# Altium footprint library Transistor.PcbLib: 59 footprints (part 1 of 4)
Each footprint in its own frame and in the unit in brackets; x right, y up, seen from the top. Pads: shape width x height; smd on the part's side, far side on the other; paste and mask are expansions set on the pad; w line width, h text height; cw(c..) or ccw(c..) is an arc to the next point about the centre after c.
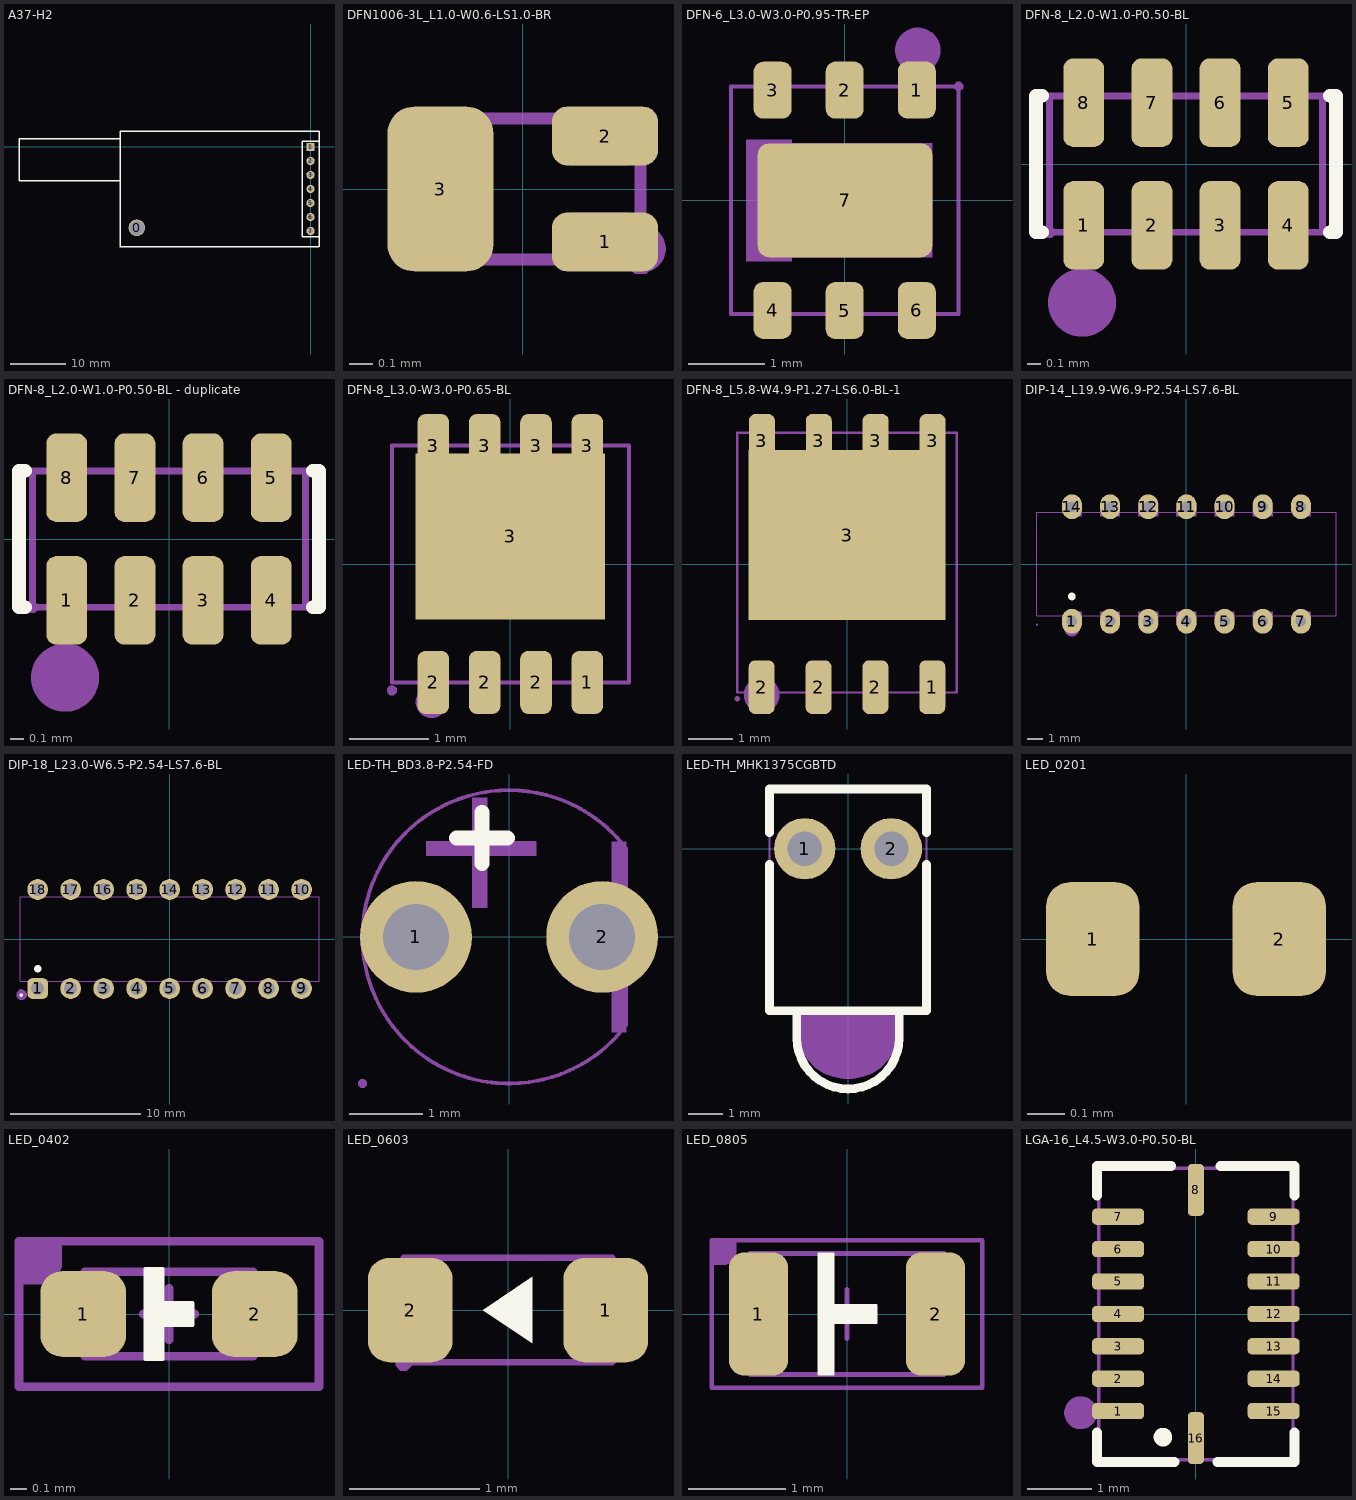
[diagram p0: the footprints below, top view; thin cyan lines are the x and y axes]

## A37-H2 [mm]
pads (8):
  round 3 hole 2.7: 0(-31.468,-14.66)
  rect 1.5x1.5 hole 0.9: 1(0,0)
  round 1.5 hole 0.9: 2(0,-2.54) 3(0,-5.08) 4(0,-7.62) 5(0,-10.16) 6(0,-12.7) 7(0.016,-15.24)
Top Overlay:
  lines w0.24: -34.476,-6.096 -52.832,-6.096 -52.832,1.524 -34.476,1.524
  lines w0.254: -34.534,-18.12 1.466,-18.12 ; -34.46,-18.12 -34.46,2.88 1.54,2.88 1.54,-18.12 ; 1.524,-16.256 -1.524,-16.256 -1.524,1.016 1.524,1.016

## DFN1006-3L_L1.0-W0.6-LS1.0-BR [mm]
pads (3):
  rrect50% 0.45x0.25 smd: 1(0.35,-0.225) 2(0.35,0.225)
  rrect50% 0.45x0.7 smd: 3(-0.35,0)
Mechanical 6:
  circle w0.1: c0.508,-0.254 r0.05
Mechanical 15:
  region: 0.56,-0.3 0.56,-0.275 0.525,-0.24 0.475,-0.24 0.44,-0.275 0.44,-0.3 0.44,-0.325 0.475,-0.36 0.525,-0.36 0.56,-0.325 0.56,-0.3
  region: -0.201,-0.25 -0.451,-0.25 -0.451,0.25 -0.201,0.25
  region: 0.2,0.25 0.45,0.25 0.45,0.1 0.2,0.1
  region: 0.2,-0.1 0.45,-0.1 0.45,-0.25 0.2,-0.25
  lines w0.051: -0.5,-0.3 -0.5,0.3 0.5,0.3 0.5,-0.3 -0.5,-0.3
3D body "User Library-DFN1006-3-1.STEP": height 0.4, standoff 0, extent -0.525,-0.325 0.525,0.325

## DFN-6_L3.0-W3.0-P0.95-TR-EP [mm]
pads (7):
  rrect50% 0.5x0.75 smd paste+0 mask+0.051: 1(0.95,1.452) 2(0,1.451) 3(-0.95,1.45) 4(-0.95,-1.451) 5(0,-1.452) 6(0.95,-1.451)
  rrect20% 2.3x1.5 smd paste+0 mask+0.051: 7(0.004,-0.001)
Mechanical 6:
  circle w0.3: c0.963,1.974 r0.15
  region: -1.3,0.8 -0.7,0.8 -0.7,-0.8 -1.3,-0.8
Mechanical 15:
  region: 1.56,1.5 1.56,1.525 1.525,1.56 1.475,1.56 1.44,1.525 1.44,1.5 1.44,1.475 1.475,1.44 1.525,1.44 1.56,1.475 1.56,1.5
  region: -1.146,-0.751 -1.146,0.75 1.154,0.75 1.154,-0.751
  region: 0.2,-1.5 -0.2,-1.5 -0.2,-1.1 0.2,-1.1
  region: -0.75,-1.5 -1.15,-1.5 -1.15,-1.1 -0.75,-1.1
  region: 1.15,-1.5 0.75,-1.5 0.75,-1.1 1.15,-1.1
  region: -1.142,1.499 -0.742,1.499 -0.742,1.099 -1.142,1.099
  region: 0.758,1.499 1.158,1.499 1.158,1.099 0.758,1.099
  region: -0.192,1.499 0.208,1.499 0.208,1.099 -0.192,1.099
  lines w0.051: -1.5,-1.5 1.5,-1.5 1.5,1.5 -1.5,1.5 -1.5,-1.5
3D body "DFN-6 3x3.step": height 1, standoff 0, extent -1.5,-1.525 1.5,1.525

## DFN-8_L2.0-W1.0-P0.50-BL [mm]
pads (8):
  rrect50% 0.3x0.65 smd paste+0 mask+0.05: 1(-0.75,-0.45) 2(-0.25,-0.45) 3(0.25,-0.45) 4(0.75,-0.45) 5(0.75,0.45) 6(0.25,0.45) 7(-0.25,0.45) 8(-0.75,0.45)
Top Overlay:
  lines w0.1: -1.054,-0.5 -1.1,-0.5 -1.1,0.5 -1.054,0.5 ; 1.054,-0.5 1.1,-0.5 1.1,0.5 1.054,0.5
Mechanical 6:
  circle w0.25: c-0.762,-1.016 r0.125
Mechanical 15:
  region: -0.96,-0.5 -0.96,-0.484 -0.983,-0.46 -1.017,-0.46 -1.04,-0.484 -1.04,-0.5 -1.04,-0.517 -1.017,-0.54 -0.983,-0.54 -0.96,-0.517 -0.96,-0.5
  region: -0.865,-0.5 -0.865,-0.15 -0.635,-0.15 -0.635,-0.5
  region: -0.365,-0.5 -0.365,-0.15 -0.135,-0.15 -0.135,-0.5
  region: 0.135,-0.5 0.135,-0.15 0.365,-0.15 0.365,-0.5
  region: 0.635,-0.5 0.635,-0.15 0.865,-0.15 0.865,-0.5
  region: 0.635,0.15 0.635,0.5 0.865,0.5 0.865,0.15
  region: 0.135,0.15 0.135,0.5 0.365,0.5 0.365,0.15
  region: -0.365,0.15 -0.365,0.5 -0.135,0.5 -0.135,0.15
  region: -0.865,0.15 -0.865,0.5 -0.635,0.5 -0.635,0.15
  lines w0.051: -1,-0.5 1,-0.5 1,0.5 -1,0.5 -1,-0.5

## DFN-8_L2.0-W1.0-P0.50-BL - duplicate [mm]
pads (8):
  rrect50% 0.3x0.65 smd paste+0 mask+0.05: 1(-0.75,-0.45) 2(-0.25,-0.45) 3(0.25,-0.45) 4(0.75,-0.45) 5(0.75,0.45) 6(0.25,0.45) 7(-0.25,0.45) 8(-0.75,0.45)
Top Overlay:
  lines w0.1: -1.054,-0.5 -1.1,-0.5 -1.1,0.5 -1.054,0.5 ; 1.054,-0.5 1.1,-0.5 1.1,0.5 1.054,0.5
Mechanical 6:
  circle w0.25: c-0.762,-1.016 r0.125
Mechanical 15:
  region: -0.96,-0.5 -0.96,-0.484 -0.983,-0.46 -1.017,-0.46 -1.04,-0.484 -1.04,-0.5 -1.04,-0.517 -1.017,-0.54 -0.983,-0.54 -0.96,-0.517 -0.96,-0.5
  region: -0.865,-0.5 -0.865,-0.15 -0.635,-0.15 -0.635,-0.5
  region: -0.365,-0.5 -0.365,-0.15 -0.135,-0.15 -0.135,-0.5
  region: 0.135,-0.5 0.135,-0.15 0.365,-0.15 0.365,-0.5
  region: 0.635,-0.5 0.635,-0.15 0.865,-0.15 0.865,-0.5
  region: 0.635,0.15 0.635,0.5 0.865,0.5 0.865,0.15
  region: 0.135,0.15 0.135,0.5 0.365,0.5 0.365,0.15
  region: -0.365,0.15 -0.365,0.5 -0.135,0.5 -0.135,0.15
  region: -0.865,0.15 -0.865,0.5 -0.635,0.5 -0.635,0.15
  lines w0.051: -1,-0.5 1,-0.5 1,0.5 -1,0.5 -1,-0.5

## DFN-8_L3.0-W3.0-P0.65-BL [mm]
pads (9):
  rrect50% 0.4x0.8 smd paste-100 mask+0.051: 1(0.975,-1.5) 2(-0.975,-1.5) 2(-0.325,-1.5) 2(0.325,-1.5) 3(-0.975,1.5) 3(-0.325,1.5) 3(0.325,1.5) 3(0.975,1.5)
  rect 2.4x2.1 smd paste-100 mask+0.051: 3(0,0.35)
Top Paste:
  region: -0.775,-1.9 -1.175,-1.9 -1.175,-1.1 -0.775,-1.1
  region: -0.125,-1.9 -0.525,-1.9 -0.525,-1.1 -0.125,-1.1
  region: 0.525,-1.9 0.125,-1.9 0.125,-1.1 0.525,-1.1
  region: 1.175,-1.9 0.775,-1.9 0.775,-1.1 1.175,-1.1
  region: 1.2,-0.7 -1.2,-0.7 -1.2,1.4 -1.175,1.4 -1.175,1.9 -0.775,1.9 -0.775,1.4 -0.525,1.4 -0.525,1.9 -0.125,1.9 -0.125,1.4 0.125,1.4 0.125,1.9 0.525,1.9 0.525,1.4 0.775,1.4 0.775,1.9 1.175,1.9 1.175,1.4 1.2,1.4
Mechanical 6:
  circle w0.2: c-1,-1.75 r0.1
Mechanical 15:
  region: -1.44,-1.6 -1.44,-1.575 -1.475,-1.54 -1.525,-1.54 -1.56,-1.575 -1.56,-1.6 -1.56,-1.625 -1.525,-1.66 -1.475,-1.66 -1.44,-1.625 -1.44,-1.6
  region: 1.125,1.2 0.825,1.2 0.825,1.6 1.125,1.6
  region: 1.125,-1.6 0.825,-1.6 0.825,-1.2 1.125,-1.2
  region: -1.175,1.35 1.175,1.35 1.175,-0.65 -1.175,-0.65
  region: 0.475,-1.6 0.175,-1.6 0.175,-1.2 0.475,-1.2
  region: -0.175,-1.6 -0.475,-1.6 -0.475,-1.2 -0.175,-1.2
  region: -0.825,-1.6 -1.125,-1.6 -1.125,-1.2 -0.825,-1.2
  region: 0.475,1.2 0.175,1.2 0.175,1.6 0.475,1.6
  region: -0.175,1.2 -0.475,1.2 -0.475,1.6 -0.175,1.6
  region: -0.825,1.2 -1.125,1.2 -1.125,1.6 -0.825,1.6
  lines w0.051: -1.5,-1.5 -1.5,1.5 1.5,1.5 1.5,-1.5 -1.5,-1.5
3D body "DFN-8 3x3.step": height 1, standoff 0, extent -1.5,-1.525 1.5,1.525

## DFN-8_L5.8-W4.9-P1.27-LS6.0-BL-1 [mm]
pads (9):
  rrect50% 0.58x1.2 smd mask+0.051: 1(1.903,-2.75) 2(-1.907,-2.75) 2(-0.637,-2.75) 2(0.633,-2.75) 3(-1.902,2.75) 3(-0.632,2.75) 3(0.638,2.75) 3(1.907,2.75)
  rect 4.4x3.8 smd mask+0.051: 3(0,0.646)
Mechanical 6:
  circle w0.4: c-1.907,-2.921 r0.2
Mechanical 15:
  region: -2.393,-3.01 -2.393,-2.985 -2.428,-2.95 -2.477,-2.95 -2.512,-2.985 -2.512,-3.01 -2.512,-3.035 -2.477,-3.07 -2.428,-3.07 -2.393,-3.035 -2.393,-3.01
  region: -2.002,2.43 1.998,2.43 1.998,-1.07 -2.002,-1.07
  region: 1.707,3.075 2.107,3.075 2.107,2.425 1.707,2.425
  region: 0.438,3.075 0.838,3.075 0.838,2.425 0.438,2.425
  region: -0.832,3.075 -0.432,3.075 -0.432,2.425 -0.832,2.425
  region: -2.102,3.075 -1.702,3.075 -1.702,2.425 -2.102,2.425
  region: 2.103,-3.01 1.703,-3.01 1.703,-2.36 2.103,-2.36
  region: 0.833,-3.01 0.433,-3.01 0.433,-2.36 0.833,-2.36
  region: -0.437,-3.01 -0.837,-3.01 -0.837,-2.36 -0.437,-2.36
  region: -1.707,-3.01 -2.107,-3.01 -2.107,-2.36 -1.707,-2.36
  lines w0.051: -2.452,-2.87 2.448,-2.87 2.448,2.93 -2.452,2.93 -2.452,-2.87
3D body "dfn2.step": height 0.99, standoff 0.03, extent -2.452,-2.995 2.548,3.055

## DIP-14_L19.9-W6.9-P2.54-LS7.6-BL [mm]
pads (14):
  oval 1.32x1.65 hole 0.7: 1(-7.62,-3.81) 2(-5.08,-3.81) 3(-2.54,-3.81) 4(0,-3.81) 5(2.54,-3.81) 6(5.08,-3.81) 7(7.62,-3.81) 8(7.62,3.81) 9(5.08,3.81) 10(2.54,3.81) 11(0,3.81) 12(-2.54,3.81) 13(-5.08,3.81) 14(-7.62,3.81)
Top Overlay:
  circle w0.254: c-7.62,-2.159 r0.127
Mechanical 6:
  circle w0.5: c-7.62,-4.318 r0.25
Mechanical 15:
  drawing of 33 lines, arcs and shapes, not listed

## DIP-18_L23.0-W6.5-P2.54-LS7.6-BL [mm]
pads (18):
  rrect50% 1.6x1.6 hole 1 paste-2539.97: 1(-10.16,-3.81)
  round 1.6 hole 1 paste-2539.97: 2(-7.62,-3.81) 3(-5.08,-3.81) 4(-2.54,-3.81) 5(0,-3.81) 6(2.54,-3.81) 7(5.08,-3.81) 8(7.62,-3.81) 9(10.16,-3.81) 10(10.16,3.81) 11(7.62,3.81) 12(5.08,3.81) 13(2.54,3.81) 14(0,3.81) 15(-2.54,3.81) 16(-5.08,3.81) 17(-7.62,3.81) 18(-10.16,3.81)
Top Overlay:
  lines w0.25: -11.444,-4.319 ccw(c-11.43,-4.318) -11.444,-4.317
  lines w0.6: -10.16,-2.286 ccw(c-10.46,-2.283) -10.16,-2.283
Mechanical 2:
  circle w0.4: c-11.4,-4.3 r0.2
Mechanical 6:
  lines w0.051: -11.5,-3.25 -11.5,3.25 11.5,3.25 11.5,-3.25 -11.5,-3.25
Mechanical 7:
  region: -9.535,-3.2 -9.535,-3.91 -10.785,-3.91 -10.785,-3.2
  region: -6.995,-3.2 -6.995,-3.91 -8.245,-3.91 -8.245,-3.2
  region: -4.455,-3.2 -4.455,-3.91 -5.705,-3.91 -5.705,-3.2
  region: -1.915,-3.2 -1.915,-3.91 -3.165,-3.91 -3.165,-3.2
  region: 0.625,-3.2 0.625,-3.91 -0.625,-3.91 -0.625,-3.2
  region: 3.165,-3.2 3.165,-3.91 1.915,-3.91 1.915,-3.2
  region: 5.705,-3.2 5.705,-3.91 4.455,-3.91 4.455,-3.2
  region: 8.245,-3.2 8.245,-3.91 6.995,-3.91 6.995,-3.2
  region: 10.785,-3.2 10.785,-3.91 9.535,-3.91 9.535,-3.2
  region: -10.785,3.2 -10.785,3.91 -9.535,3.91 -9.535,3.2
  region: -8.245,3.2 -8.245,3.91 -6.995,3.91 -6.995,3.2
  region: -5.705,3.2 -5.705,3.91 -4.455,3.91 -4.455,3.2
  region: -3.165,3.2 -3.165,3.91 -1.915,3.91 -1.915,3.2
  region: -0.625,3.2 -0.625,3.91 0.625,3.91 0.625,3.2
  region: 1.915,3.2 1.915,3.91 3.165,3.91 3.165,3.2
  region: 4.455,3.2 4.455,3.91 5.705,3.91 5.705,3.2
  region: 6.995,3.2 6.995,3.91 8.245,3.91 8.245,3.2
  region: 9.535,3.2 9.535,3.91 10.785,3.91 10.785,3.2
Mechanical 8:
  region: -11.44,-3.91 -11.44,-3.935 -11.475,-3.97 -11.525,-3.97 -11.56,-3.935 -11.56,-3.91 -11.56,-3.885 -11.525,-3.85 -11.475,-3.85 -11.44,-3.885 -11.44,-3.91
Mechanical 9:
  region: -5.33,3.91 -4.83,3.91 -4.83,3.71 -5.33,3.71
  region: -2.79,3.91 -2.29,3.91 -2.29,3.71 -2.79,3.71
  region: -0.25,3.91 0.25,3.91 0.25,3.71 -0.25,3.71
  region: 2.29,3.91 2.79,3.91 2.79,3.71 2.29,3.71
  region: 4.83,3.91 5.33,3.91 5.33,3.71 4.83,3.71
  region: 7.37,3.91 7.87,3.91 7.87,3.71 7.37,3.71
  region: 9.91,3.91 10.41,3.91 10.41,3.71 9.91,3.71
  region: 9.91,-3.71 10.41,-3.71 10.41,-3.91 9.91,-3.91
  region: -7.87,3.91 -7.37,3.91 -7.37,3.71 -7.87,3.71
  region: -10.41,3.91 -9.91,3.91 -9.91,3.71 -10.41,3.71
  region: 7.37,-3.71 7.87,-3.71 7.87,-3.91 7.37,-3.91
  region: 4.83,-3.71 5.33,-3.71 5.33,-3.91 4.83,-3.91
  region: 2.29,-3.71 2.79,-3.71 2.79,-3.91 2.29,-3.91
  region: -0.25,-3.71 0.25,-3.71 0.25,-3.91 -0.25,-3.91
  region: -2.79,-3.71 -2.29,-3.71 -2.29,-3.91 -2.79,-3.91
  region: -5.33,-3.71 -4.83,-3.71 -4.83,-3.91 -5.33,-3.91
  region: -7.87,-3.71 -7.37,-3.71 -7.37,-3.91 -7.87,-3.91
  region: -10.41,-3.71 -9.91,-3.71 -9.91,-3.91 -10.41,-3.91
3D body "DIP18N socket with IC.step": height 7.37, standoff -2.87, extent -11.33,-4.65 11.33,4.65

## LED-TH_BD3.8-P2.54-FD [mil]
pads (2):
  round 60 hole 35.43: 1(-50,0) 2(50,0)
Top Overlay:
  lines w8: -28.29,53.15 -0.73,53.15 ; -14.51,39.37 -14.51,66.93
Mechanical 6:
  region: -44.36,51.37 14.7,51.37 14.7,43.5 -44.36,43.5
  region: -19.68,15.75 -19.68,74.8 -11.81,74.8 -11.81,15.75
  region: 55.12,51.18 62.99,51.18 62.99,-51.18 55.12,-51.18 55.12,-47.24
Mechanical 15:
  drawing of 161 lines, arcs and shapes, not listed

## LED-TH_MHK1375CGBTD [mm]
pads (2):
  round 1.8 hole 1 paste-2539.97 mask+0.051: 1(-1.27,0) 2(1.27,0)
Top Overlay:
  lines w0.254: -2.3,-0.464 -2.3,-4.75 2.3,-4.75 2.3,-0.464 ; -2.3,0.464 -2.3,1.75 2.3,1.75 2.3,0.464 ; -1.501,-5.55 ccw(c-0.001,-5.544) 1.5,-5.55 1.5,-4.75 ; -1.5,-5.55 -1.5,-4.75
Mechanical 6:
  region: -1.5,-4.75 -1.5,-5.25 -1.5,-5.398 -1.442,-5.688 -1.329,-5.961 -1.165,-6.206 -0.956,-6.415 -0.711,-6.579 -0.438,-6.692 -0.148,-6.75 0,-6.75 0.148,-6.75 0.438,-6.692 0.711,-6.579 0.956,-6.415 1.165,-6.206 1.329,-5.961 1.442,-5.688 1.5,-5.398 1.5,-5.25 1.5,-4.75
Mechanical 15:
  region: 1.02,0.25 1.52,0.25 1.52,-0.25 1.02,-0.25
  region: -1.52,0.25 -1.02,0.25 -1.02,-0.25 -1.52,-0.25
  region: -2.24,-4.75 -2.24,-4.725 -2.275,-4.69 -2.325,-4.69 -2.36,-4.725 -2.36,-4.75 -2.36,-4.775 -2.325,-4.81 -2.275,-4.81 -2.24,-4.775 -2.24,-4.75
  lines w0.051: -2.3,-4.75 -2.3,1.75 2.3,1.75 2.3,-4.75 -2.3,-4.75 ; -2.3,-4.75 -2.3,-4.75

## LED_0201 [mm]
pads (2):
  rrect50% 0.25x0.305 smd mask+0.102: 1(-0.25,0) 2(0.25,0)
3D body "R0201.step": height 0.33, standoff 0, extent -0.34,-0.165 0.34,0.165

## LED_0402 [mil] "LED_0402"
pads (2):
  rrect50% 20x20 smd: 1(-20,0) 2(20,0)
Top Overlay:
  region: -5.5,10.5 -1.5,10.5 -1.5,2.5 5.5,2.5 5.5,-2.5 -1.5,-2.5 -1.5,-10.5 -5.5,-10.5
  lines w1: -5.5,-10.5 -1.5,-10.5 -1.5,-2.5 5.5,-2.5 5.5,2.5 -1.5,2.5 -1.5,10.5 -5.5,10.5 -5.5,-10.5
Mechanical 13:
  lines w2: -6,0 6,0 ; 0,-6 0,6 ; -19.69,-9.84 -19.69,9.84 19.68,9.84 19.68,-9.84 -19.69,-9.84
Mechanical 14:
  region: -35,17 -25,17 -25,12 -25,11.01 -25.76,9.17 -27.17,7.76 -29.01,7 -30,7 -35,7
  lines w2: -35,-17 -35,17 35,17 35,-17 -35,-17
3D body "User Library-led_0402LED0402 red_.STEP": height 17.72, standoff 0, extent -19.88,-9.84 19.89,9.84

## LED_0603 [mm]
pads (2):
  rrect50% 0.65x0.8 smd mask+0.051: 1(0.75,0) 2(-0.75,0)
Top Overlay:
  region: -0.194,0 0.187,0.254 0.187,-0.254
Mechanical 6:
  region: 0.529,0.068 1.069,0.068 1.069,-0.062 0.529,-0.062
  region: 0.735,-0.267 0.735,0.273 0.865,0.273 0.865,-0.267
  region: -1.07,0.062 -0.53,0.062 -0.53,-0.068 -1.07,-0.068
Mechanical 15:
  region: 0.5,-0.396 0.5,0.404 0.8,0.404 0.8,-0.396
  region: -0.8,-0.403 -0.8,0.397 -0.5,0.397 -0.5,-0.403
  region: -0.739,-0.403 -0.739,-0.428 -0.775,-0.463 -0.824,-0.463 -0.859,-0.428 -0.859,-0.403 -0.859,-0.379 -0.824,-0.344 -0.775,-0.344 -0.739,-0.379 -0.739,-0.403
  lines w0.051: -0.8,-0.4 0.8,-0.4 0.8,0.4 -0.8,0.4 -0.8,-0.4
3D body "User Library-LED SMD0603.STEP": height 0.68, standoff 0, extent -0.825,-0.365 0.825,0.36

## LED_0805 [mil] "LED_0805"
height 47.24
pads (2):
  rrect50% 24x50 smd: 1(-36,0) 2(36,0)
Top Overlay:
  region: -11.5,24.5 -5.5,24.5 -5.5,3.5 12,3.5 12,-3.5 -5.5,-3.5 -5.5,-24.5 -11.5,-24.5
  lines w1: -11.5,-24.5 -5.5,-24.5 -5.5,-3.5 12,-3.5 12,3.5 -5.5,3.5 -5.5,24.5 -11.5,24.5 -11.5,-24.5
Mechanical 13:
  lines w2: -10,0 10,0 ; 0,-10 0,10 ; -39.37,-24.61 -39.37,24.61 39.37,24.61 39.37,-24.61 -39.37,-24.61
Mechanical 14:
  region: -55,30 -45,30 -45,25 -45,24.01 -45.76,22.17 -47.17,20.76 -49.01,20 -50,20 -55,20
  lines w2: -55,-30 55,-30 55,30 -55,30 -55,-30
3D body "User Library-led_0805LED0805_red.STEP": height 43.31, standoff 0, extent -39.76,-24.6 39.77,24.61

## LGA-16_L4.5-W3.0-P0.50-BL [mm]
pads (16):
  rrect50% 0.8x0.25 smd: 1(-1.2,-1.498) 2(-1.2,-0.998) 3(-1.2,-0.498) 4(-1.2,0.002) 5(-1.2,0.502) 6(-1.2,1.002) 7(-1.2,1.502) 9(1.2,1.502) 10(1.2,1.002) 11(1.2,0.502) 12(1.2,0.002) 13(1.2,-0.498) 14(1.2,-0.998) 15(1.2,-1.498)
  rrect50% 0.25x0.8 smd: 8(0,1.915) 16(0,-1.915)
Top Overlay:
  circle w0.25: c-0.508,-1.9 r0.018
  lines w0.152: -1.524,-1.827 -1.524,-2.286 -0.329,-2.286 ; -1.524,1.831 -1.524,2.159 -1.524,2.286 -0.381,2.286 ; 0.329,-2.286 1.524,-2.286 1.524,-1.827 ; 0.381,2.286 1.524,2.286 1.524,1.831
Mechanical 6:
  circle w0.254: c-1.778,-1.524 r0.127
Mechanical 15:
  region: -0.1,-1.65 0.1,-1.65 0.1,-2.15 -0.1,-2.15
  region: 0.9,-1.598 0.9,-1.398 1.4,-1.398 1.4,-1.598
  region: 0.9,-1.098 0.9,-0.898 1.4,-0.898 1.4,-1.098
  region: 0.9,-0.598 0.9,-0.398 1.4,-0.398 1.4,-0.598
  region: 0.9,-0.098 0.9,0.102 1.4,0.102 1.4,-0.098
  region: 0.9,0.402 0.9,0.602 1.4,0.602 1.4,0.402
  region: 0.9,0.902 0.9,1.102 1.4,1.102 1.4,0.902
  region: 0.9,1.402 0.9,1.602 1.4,1.602 1.4,1.402
  region: 0.1,1.65 -0.1,1.65 -0.1,2.15 0.1,2.15
  region: -0.9,1.602 -0.9,1.402 -1.4,1.402 -1.4,1.602
  region: -0.9,1.102 -0.9,0.902 -1.4,0.902 -1.4,1.102
  region: -0.9,0.602 -0.9,0.402 -1.4,0.402 -1.4,0.602
  region: -0.9,0.102 -0.9,-0.098 -1.4,-0.098 -1.4,0.102
  region: -0.9,-0.398 -0.9,-0.598 -1.4,-0.598 -1.4,-0.398
  region: -0.9,-0.898 -0.9,-1.098 -1.4,-1.098 -1.4,-0.898
  region: -0.9,-1.398 -0.9,-1.598 -1.4,-1.598 -1.4,-1.398
  region: -1.44,-2.25 -1.44,-2.225 -1.475,-2.19 -1.525,-2.19 -1.56,-2.225 -1.56,-2.25 -1.56,-2.275 -1.525,-2.31 -1.475,-2.31 -1.44,-2.275 -1.44,-2.25
  lines w0.051: -1.5,-2.25 1.5,-2.25 1.5,2.25 -1.5,2.25 -1.5,-2.25
3D body "User Library-LGA-16_l45w30h095.STEP": height 0.95, standoff -0.01, extent -1.5,-2.248 1.5,2.252